# EAGLE library part 74*173 (library 74ttl-din)
4-bit D type REGISTER, 3-state
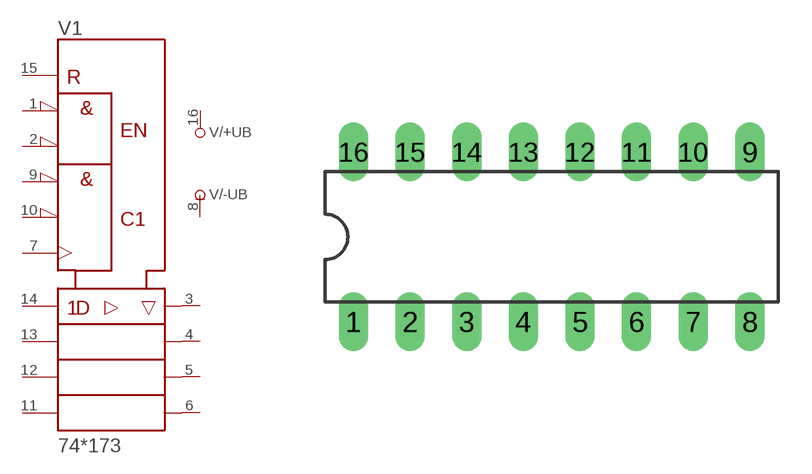
[diagram p54: symbol with the pads of DIL16; footprint DIL16]

Designator prefix V; gates /+UB=+UB /-UB=-UB 1=173

## 74173N  [DIL16]
1  1:M  in
2  1:N  in
3  1:1Q  hiz
4  1:2Q  hiz
5  1:3Q  hiz
6  1:4Q  hiz
7  1:CLK  in
8  /-UB:-UB  pwr
9  1:G\1  in
10  1:G\2  in
11  1:4D  in
12  1:3D  in
13  1:2D  in
14  1:1D  in
15  1:CLR  in
16  /+UB:+UB  pwr

## Footprint DIL16 (pad centres in mm)
Dual In Line Package
drill 0.813 long: 1 -8.89,-3.81; 2 -6.35,-3.81; 3 -3.81,-3.81; 4 -1.27,-3.81; 5 1.27,-3.81; 6 3.81,-3.81; 7 6.35,-3.81; 8 8.89,-3.81; 9 8.89,3.81; 10 6.35,3.81; 11 3.81,3.81; 12 1.27,3.81; 13 -1.27,3.81; 14 -3.81,3.81; 15 -6.35,3.81; 16 -8.89,3.81